# EAGLE library part STBC15QTR (library Battery Chargers)
Charger IC Lithium-Ion 12-QFN (1.7x2) Manufacturer's datasheet <https://www.st.com/resource/en/datasheet/stbc15.pdf>
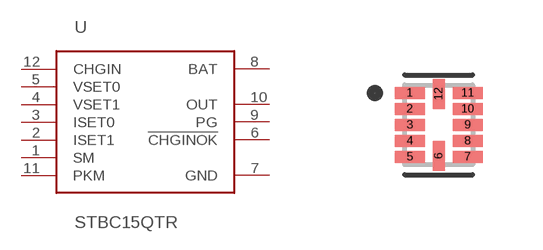
[diagram p11: symbol with the pads of STBC15QTR; footprint STBC15QTR]

Designator prefix U

## STBC15QTR (CREATED_BY: PCBLayout.com; DIGIKEY_PART_NUMBER: 497-18166-1-ND; MANUFACTURER: STMicroelectronics; MPN: STBC15QTR; PACKAGE: 12-QFN)  [STBC15QTR]
1  SM  in
2  ISET1  in
3  ISET0  in
4  VSET1  in
5  VSET0  in
6  !CHGINOK  out
7  GND  pwr
8  BAT  pwr
9  PG  out
10  OUT  out
11  PKM  in
12  CHGIN  in

## Footprint STBC15QTR (pad centres in mm)
smd 0.75 x 0.3: 1 -0.725,0.8; 2 -0.725,0.4; 3 -0.725,0; 4 -0.725,-0.4; 5 -0.725,-0.8; 7 0.725,-0.8; 8 0.725,-0.4; 9 0.725,0; 10 0.725,0.4; 11 0.725,0.8
smd 0.3 x 0.75: 6 0,-0.775; 12 0,0.775